# Altium schematic symbol library TEP-AltiumLib.SCHLIB: 14 symbols
Pins are listed as number, name and electrical type; pins without a type are passive.

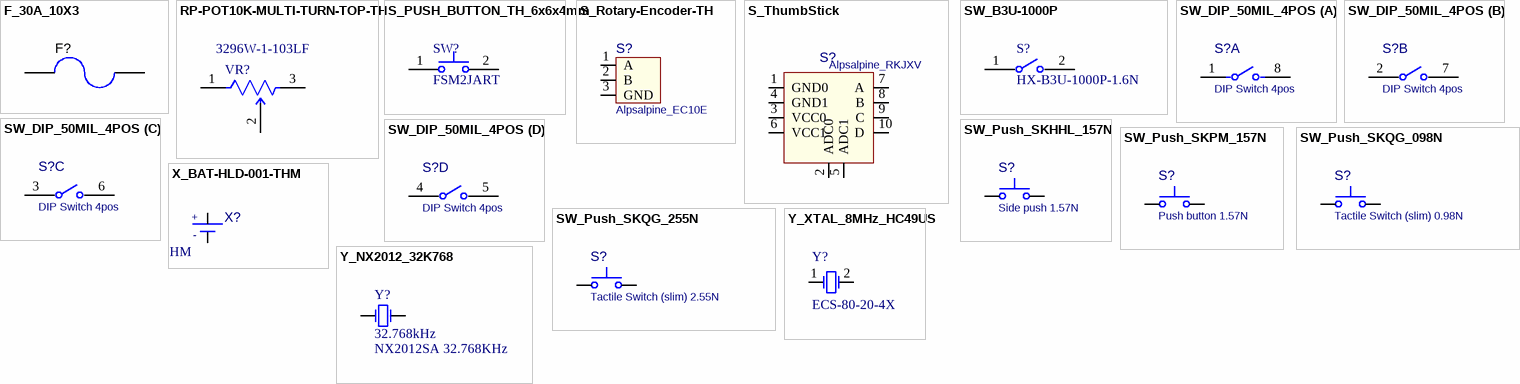
[diagram p0: symbols F_30A_10X3 to Y_XTAL_8MHz_HC49US]

## F_30A_10X3
designator F?, comment 0463030.ER  (value not drawn)
Fuse, 30 A, 250 VAC, 100 VDC, SMD; Manufacturer 1: Littelfuse; Value: 30A/100V; Supplier Part Number 3: 576-0463030.ER; Supplier 1: Digi-Key; Supplier Part Number 2: 64W8551; Supplier 2: Newark; Supplier Part Number 1: F6439CT-ND; Supplier 3: Mouser; Mounting Technology: SMT
footprint Fuse_0463 (SMD, 2-Leads, Body 10.1x3.12mm)
pins: 1, 2

## RP-POT10K-MULTI-TURN-TOP-TH
designator VR?, comment 3296W-1-103LF
TRIMMER 10K OHM 0.5W PC PIN TOP; Manufacturer 1: JIERR; Manufacturer Part Number 1: 3296W-1-103LF; Mounting Technology: TH; Manufacturer 2: BOURNS; Manufacturer Part Number 2: 3296W-1-103LF; Supplier 1: LCSC; Supplier 2: LCSC; Supplier Part Number 1: C49190453; Supplier Part Number 2: C34846
footprint R-POT-TH-TOP
pins: 1 CCW, 2 WIPER, 3 CW

## S_PUSH_BUTTON_TH_6x6x4mm
designator SW?, comment FSM2JART
SWITCH TACTILE SPST-NO 0.05A 12V Through Hole 6x6x4mm; Manufacturer 1: TE Connectivity; Value: Push Button; Manufacturer Part Number 1: FSM2JART; Mounting Technology: Through Hole; Supplier 1: Digikey; Supplier 2: LCSC; Supplier Part Number 1: 450-FSM2JARTCT-ND; Supplier Part Number 2: C6859613
footprint S_FSM2JART
pins: 1, 2

## S_Rotary-Encoder-TH
designator S?, comment value Alpsalpine_EC10E  (hidden comment: EC10E1220503)
Rotary Encoder TH Alpsalpine EC10E; Code CEGEP: KROTARY; Localisation: R13-E084; Manufacturer 1: ALPSALPINE; Manufacturer Part Number 1: EC10E1220503; Mounting Technology: TH; Supplier 1: LCSC; Supplier 2: DigiKey; Supplier Part Number 1: C110291; Supplier Part Number 2: 4809-EC10E1220503-ND
footprint S_Rotary_Encoder_TH (Alpsalpine_EC10E Rotary Encoder TH)
pins: 1 A, 2 B, 3 GND

## S_ThumbStick
designator S?, comment value Alpsalpine_RKJXV  (hidden comment: RKJXV122400R)
ThumbStick Alpsalpine RKJXV; Code CEGEP: KPOT10KVAR; Localisation: R13-E079; Manufacturer 1: ALPSALPINE; Manufacturer Part Number 1: RKJXV122400R; Mounting Technology: TH; Supplier 1: LCSC; Supplier 2: Mouser; Supplier Part Number 1: C918854; Supplier Part Number 2: 688-RKJXV122400R
footprint S_Thumb_Stick_TH (Thumb Stick TH Alpsalpine RKJXV122400R)
pins: 1 GND0, 2 ADC0, 3 VCC0, 4 GND1, 5 ADC1, 6 VCC1, 7 A, 8 B, 9 C, 10 D

## SW_B3U-1000P
designator S?, comment HX-B3U-1000P-1.6N
SWITCH TACTILE SPST-NO 0.05A 12V; Manufacturer 1: hanxia; Mounting Technology: SMT; Supplier 1: LCSC; Supplier Part Number 1: C49234121; Manufacturer 2: Omron; Manufacturer Part Number 1: HX-B3U-1000P-1.6N; Manufacturer Part Number 2: B3U-1000P
footprint S_B3U-1000P
pins: 1, 2

## SW_DIP_50MIL_4POS
designator S?, comment value DIP Switch 4pos  (hidden comment: DSHP04TSGER)
SWITCH DIP SLIDE SPST 25MA 24V, pitch 1.27mm, height 1.55mm; Manufacturer 1: kangshen; Manufacturer 2: Omron; Manufacturer Part Number 1: DSHP04TSGER; Manufacturer Part Number 2: A6H-4102-PM; Mounting Technology: SMT; Supplier 1: LCSC; Supplier 2: LCSC; Supplier Part Number 1: C3293144; Supplier Part Number 2: C2733274; Supplier 3: Digikey; Supplier Part Number 3: 39-A6H-4102-PMCT-ND
footprint S_DIP_SWITCH_50MIL_4POS (Dip switch 4pos, pitch 1.27mm, height 1.55mm)
part A pins: 1, 8
part B pins: 2, 7
part C pins: 3, 6
part D pins: 4, 5

## SW_Push_SKHHL_157N
designator S?, comment value Side push 1.57N  (hidden comment: SKHHLNA010)
Side push 6.0mm Square Type (Snap-in) 1.57N l=3.85mm; Manufacturer 1: ALPSALPINE; Code CEGEP: KINTROND; Localisation: R13-E083; Manufacturer Part Number 1: SKHHLNA010; Mounting Technology: TH; Supplier 1: LCSC; Supplier 2: DigiKey; Supplier Part Number 1: C125031; Supplier Part Number 2: 4809-SKHHLNA010-ND
footprint S_Alpsalpine_SKHHL
pins: 1, 2

## SW_Push_SKPM_157N
designator S?, comment value Push button 1.57N  (hidden comment: SKPMAME010)
Push button 1.57N; Manufacturer 1: ALPSALPINE; Code CEGEP: KINT01; Localisation: R13-E075; Manufacturer Part Number 1: SKPMAME010; Mounting Technology: SMT; Supplier 1: LCSC; Supplier 2: DigiKey; Supplier Part Number 1: C115348; Supplier Part Number 2: 4809-SKPMAME010CT-ND
footprint S_Alpsalpine_SKPM
pins: 1, 2

## SW_Push_SKQG_098N
designator S?, comment value Tactile Switch (slim) 0.98N  (hidden comment: SKQGAFE010)
Tactile Switch (dome) 0.98N; Manufacturer 1: ALPSALPINE; Manufacturer Part Number 1: SKQGAFE010; Mounting Technology: SMT; Supplier 1: LCSC; Supplier 2: DigiKey; Supplier Part Number 1: C202424; Supplier Part Number 2: 4809-SKQGAFE010CT-ND
footprint S_Alpsalpine_SKQG
pins: 1, 2

## SW_Push_SKQG_255N
designator S?, comment value Tactile Switch (slim) 2.55N  (hidden comment: SKQGADE010)
Tactile Switch (dome) 2.55N; Manufacturer 1: ALPSALPINE; Code CEGEP: KINT02; Localisation: R13-E077; Manufacturer Part Number 1: SKQGADE010; Mounting Technology: SMT; Supplier 1: LCSC; Supplier 2: Digikey; Supplier Part Number 1: C116647; Supplier Part Number 2: 4809-SKQGADE010CT-ND
footprint S_Alpsalpine_SKQG
pins: 1, 2

## X_BAT-HLD-001-THM
designator X?, comment BAT-HLD-001-THM
Holder Coin Cell CR2032 20mm TH; Manufacturer 1: TE Connectivity Linx; Manufacturer Part Number 1: BAT-HLD-001-THM; Value: BAT-HLD-001-THM; Supplier 1: Digi-Key; Supplier Part Number 1: BAT-HLD-001-THM-ND; Mounting Technology: TH; Supplier 2: LSSC; Supplier Part Number 2: C22417572
footprint X_BAT-HLD-001-THM (Holder Coin Cell CR2032 20mm dia. TH)
pins: 1 -, 2 +, 3 +, 4 +, 5 +

## Y_NX2012_32K768
designator Y?, comment NX2012SA 32.768KHz  value 32.768kHz
Crystal NDK 2.0x1.2mm  32.768 KHz; Manufacturer Part Number 1: NX2012SA 32.768KHz  EXS00A-MU00389; Manufacturer 1: NDK; Manufacturer 2: Epson; Manufacturer Part Number 2: X1A0000610008; Supplier Part Number 1: C96341; Supplier 1: LCSC; Mounting Technology: SMT
footprint Y_2012_2P
pins: 1 OSC1, 2 OSC2

## Y_XTAL_8MHz_HC49US
designator Y?, comment ECS-80-20-4X
Crystal 8MHz TH; Manufacturer 1: ECS; Code CEGEP: CRISTAL0041; Mounting Technology: TH; Manufacturer Part Number 1: ECS-80-20-4X; Supplier 1: Digi-Key; Supplier Part Number 1: XC1922-ND; Value: 8MHz
footprint Y_HC-49-US (Xtal)
pins: 1, 2